# Altium integrated library National Semiconductor Switcher.IntLib: 2226 symbols (part 53 of 59)
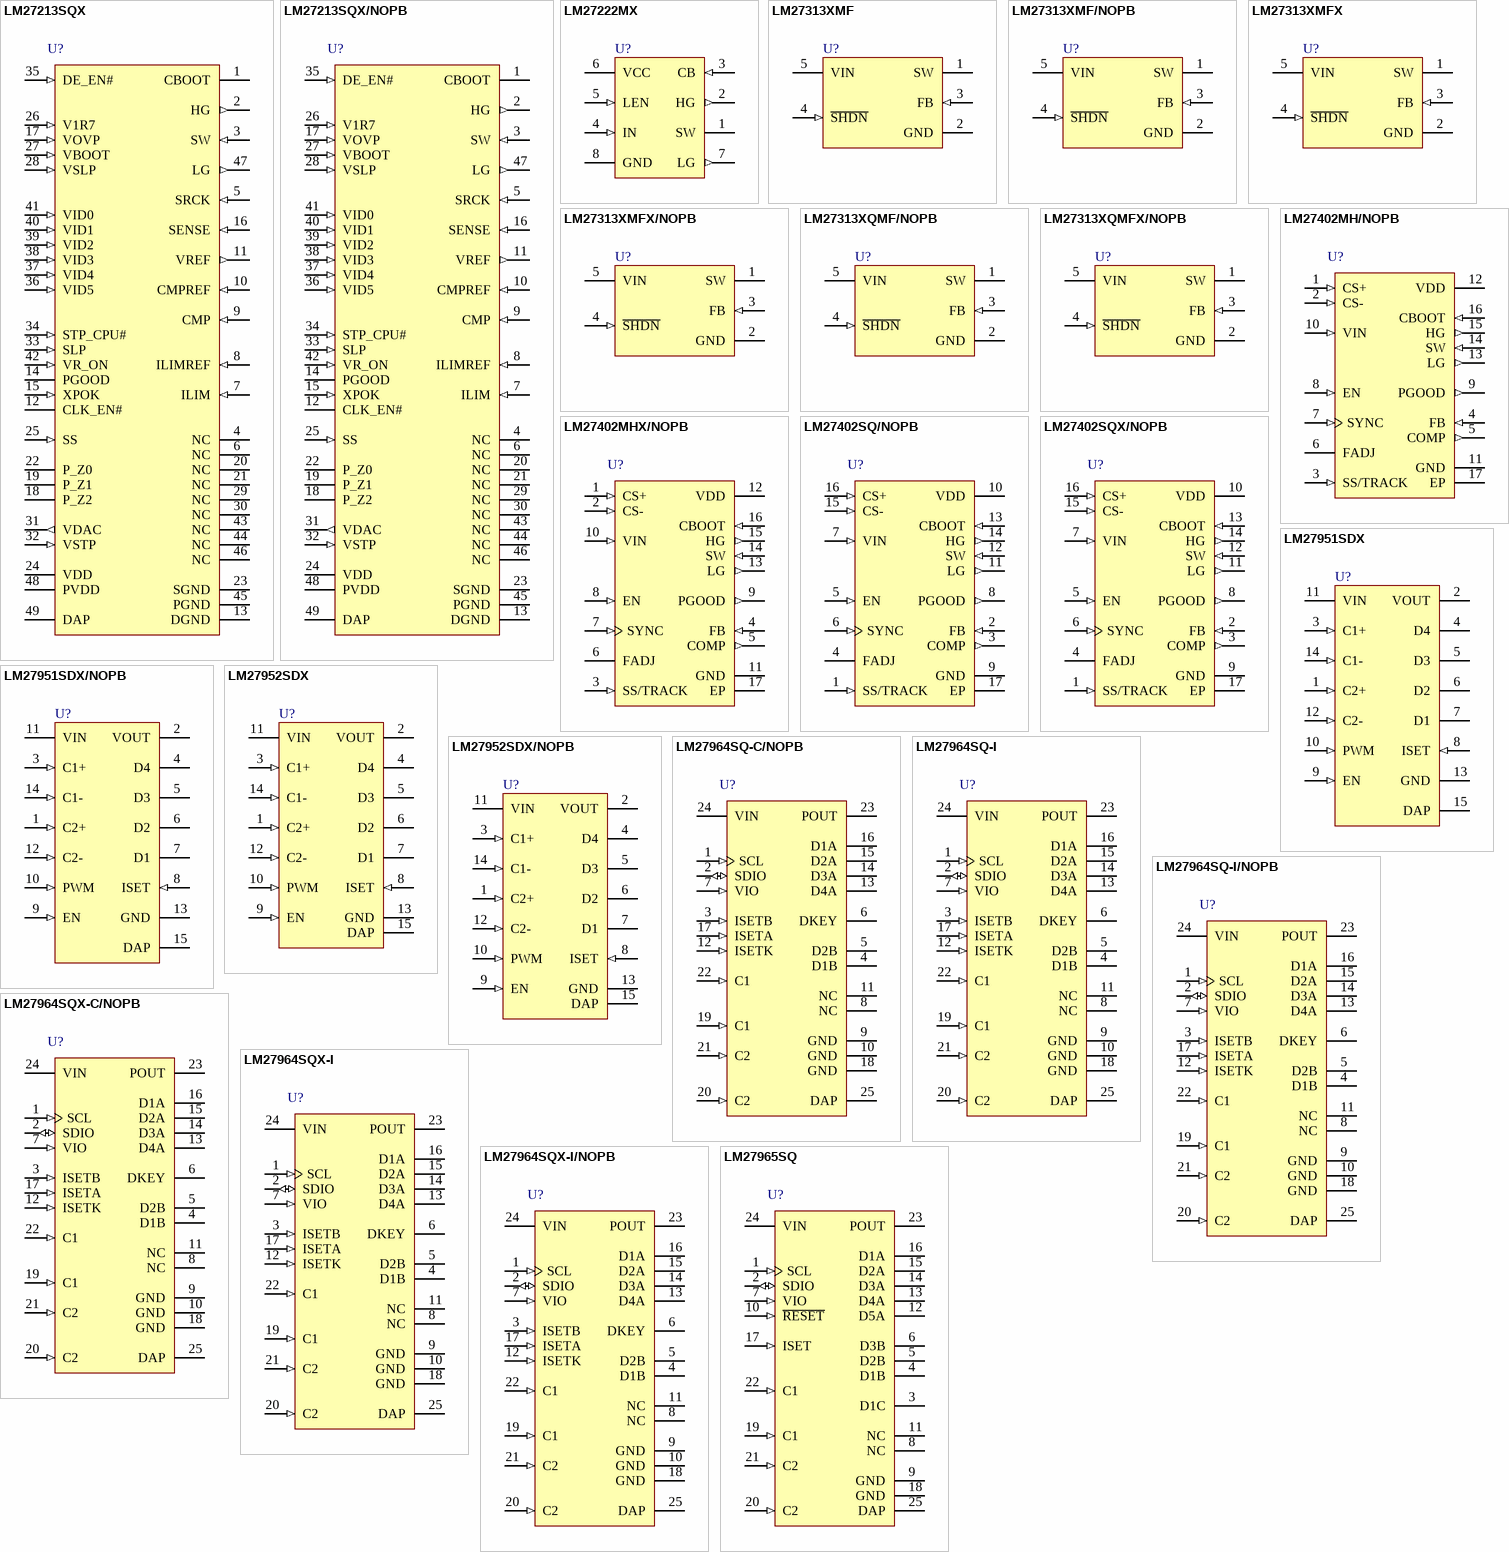
[diagram p121: symbols LM27213SQX to LM27965SQ]

## LM27951SDX/NOPB
designator U?
White LED Adaptive 1.5X/1X Switched Capacitor Current Driver, 14-pin LLP, Pb-Free; PartNumber: LM27951SDX/NOPB; Manufacturer: National Semiconductor; PackageTopMarking: ZXYTTE#*D006B; PowerWise: Y; CompType: Switcher; DatasheetVersion: Nov-2005; PackageVersion: revA, Jun-2003; PackageReference: SDA14A; PackageDescription: LLP, Plastic, Dual, 4 x 3 x 0.8mm Body, 14 Lead, 0.5mm Pitch, No Pullback; RoHS: Y; PinCount: 14; High-Reliability: Y; ComponentLink1Description: Manufacturer URL; ComponentLink1URL: http://www.national.com/; ComponentLink2Description: LM27951 Datasheet; ComponentLink2URL: http://www.national.com/ds/LM/LM27951.pdf; ComponentLink3Description: LM27951 Web Page; ComponentLink3URL: http://www.national.com/pf/LM/LM27951.html; ComponentLink4Description: SDA14A Package Page; ComponentLink4URL: http://www.national.com/packaging/folders/sda14a.html
footprint SDA14A (SON, 14-Leads, Body 4x3mm, Pitch 0.5mm, NSC Recommended)
pins: 1 C2+ (in), 2 VOUT (power), 3 C1+ (in), 4 D4 (oc), 5 D3 (oc), 6 D2 (oc), 7 D1 (oc), 8 ISET (in), 9 EN (in), 10 PWM (in), 11 VIN (power), 12 C2- (in), 13 GND (power), 14 C1- (in), 15 DAP (power)

## LM27952SDX
designator U?
White LED Adaptive 1.5X/1X Switched Capacitor Current Driver, 14-pin LLP; PartNumber: LM27952SDX; Manufacturer: National Semiconductor; PackageTopMarking: ZXYTTE#*D005B; PowerWise: Y; CompType: Switcher; DatasheetVersion: Aug-2005; PackageVersion: revA, Jun-2003; PackageReference: SDA14A; PackageDescription: LLP, Plastic, Dual, 4 x 3 x 0.8mm Body, 14 Lead, 0.5mm Pitch, No Pullback; RoHS: N; PinCount: 14; High-Reliability: Y; ComponentLink1Description: Manufacturer URL; ComponentLink1URL: http://www.national.com/; ComponentLink2Description: LM27952 Datasheet; ComponentLink2URL: http://www.national.com/ds/LM/LM27952.pdf; ComponentLink3Description: LM27952 Web Page; ComponentLink3URL: http://www.national.com/pf/LM/LM27952.html; ComponentLink4Description: SDA14A Package Page; ComponentLink4URL: http://www.national.com/packaging/folders/sda14a.html
footprint SDA14A (SON, 14-Leads, Body 4x3mm, Pitch 0.5mm, NSC Recommended)
pins: 1 C2+ (in), 2 VOUT (power), 3 C1+ (in), 4 D4 (oc), 5 D3 (oc), 6 D2 (oc), 7 D1 (oc), 8 ISET (in), 9 EN (in), 10 PWM (in), 11 VIN (power), 12 C2- (in), 13 GND (power), 14 C1- (in), 15 DAP (power)

## LM27952SDX/NOPB
designator U?
White LED Adaptive 1.5X/1X Switched Capacitor Current Driver, 14-pin LLP, Pb-Free; PartNumber: LM27952SDX/NOPB; Manufacturer: National Semiconductor; PackageTopMarking: ZXYTTE#*D005B; PowerWise: Y; CompType: Switcher; DatasheetVersion: Aug-2005; PackageVersion: revA, Jun-2003; PackageReference: SDA14A; PackageDescription: LLP, Plastic, Dual, 4 x 3 x 0.8mm Body, 14 Lead, 0.5mm Pitch, No Pullback; RoHS: Y; PinCount: 14; High-Reliability: Y; ComponentLink1Description: Manufacturer URL; ComponentLink1URL: http://www.national.com/; ComponentLink2Description: LM27952 Datasheet; ComponentLink2URL: http://www.national.com/ds/LM/LM27952.pdf; ComponentLink3Description: LM27952 Web Page; ComponentLink3URL: http://www.national.com/pf/LM/LM27952.html; ComponentLink4Description: SDA14A Package Page; ComponentLink4URL: http://www.national.com/packaging/folders/sda14a.html
footprint SDA14A (SON, 14-Leads, Body 4x3mm, Pitch 0.5mm, NSC Recommended)
pins: 1 C2+ (in), 2 VOUT (power), 3 C1+ (in), 4 D4 (oc), 5 D3 (oc), 6 D2 (oc), 7 D1 (oc), 8 ISET (in), 9 EN (in), 10 PWM (in), 11 VIN (power), 12 C2- (in), 13 GND (power), 14 C1- (in), 15 DAP (power)

## LM27964SQ-C/NOPB
designator U?
White LED Driver System with I2C Compatible Brightness Control, 24-pin LLP, Pb-Free; PartNumber: LM27964SQ-C/NOPB; Manufacturer: National Semiconductor; PackageTopMarking: NS*UZXYTT*27964-C; PowerWise: N; CompType: Switcher; High-Reliability: Y; DatasheetVersion: Aug-2007; PackageVersion: revB, Aug-2003; PackageReference: SQA24A; PackageDescription: LLP, Plastic, Quad, 4 x 4 x 0.8mm Body, 24 Lead, 0.5mm Pitch, No Pullback; RoHS: Y; PinCount: 24; Code_JEDEC: MO-220-WGGD-6; ComponentLink1Description: Manufacturer URL; ComponentLink1URL: http://www.national.com/; ComponentLink2Description: LM27964 Datasheet; ComponentLink2URL: http://www.national.com/ds/LM/LM27964.pdf; ComponentLink3Description: LM27964 Web Page; ComponentLink3URL: http://www.national.com/pf/LM/LM27964.html; ComponentLink4Description: SQA24A Package Page; ComponentLink4URL: http://www.national.com/packaging/folders/sqa24a.html
footprint SQA24A (QFN, 24-Leads, Body 4x4mm, Pitch 0.5mm, Thermal Pad 2.7x2.7mm, NSC Recommended)
pins: 1 SCL (in), 2 SDIO (io), 3 ISETB (in), 4 D1B (oc), 5 D2B (oc), 6 DKEY (oc), 7 VIO (in), 8 NC, 9 GND (power), 10 GND (power), 11 NC, 12 ISETK (in), 13 D4A (oc), 14 D3A (oc), 15 D2A (oc), 16 D1A (oc), 17 ISETA (in), 18 GND (power), 19 C1 (in), 20 C2 (in), 21 C2 (in), 22 C1 (in), 23 POUT (power), 24 VIN (power), 25 DAP (power)

## LM27964SQ-I
designator U?
White LED Driver System with I2C Compatible Brightness Control, 24-pin LLP; PartNumber: LM27964SQ-I; Manufacturer: National Semiconductor; PackageTopMarking: NS*UZXYTT*L27964S; PowerWise: N; CompType: Switcher; High-Reliability: Y; DatasheetVersion: Aug-2007; PackageVersion: revB, Aug-2003; PackageReference: SQA24A; PackageDescription: LLP, Plastic, Quad, 4 x 4 x 0.8mm Body, 24 Lead, 0.5mm Pitch, No Pullback; RoHS: N; PinCount: 24; Code_JEDEC: MO-220-WGGD-6; ComponentLink1Description: Manufacturer URL; ComponentLink1URL: http://www.national.com/; ComponentLink2Description: LM27964 Datasheet; ComponentLink2URL: http://www.national.com/ds/LM/LM27964.pdf; ComponentLink3Description: LM27964 Web Page; ComponentLink3URL: http://www.national.com/pf/LM/LM27964.html; ComponentLink4Description: SQA24A Package Page; ComponentLink4URL: http://www.national.com/packaging/folders/sqa24a.html
footprint SQA24A (QFN, 24-Leads, Body 4x4mm, Pitch 0.5mm, Thermal Pad 2.7x2.7mm, NSC Recommended)
pins: 1 SCL (in), 2 SDIO (io), 3 ISETB (in), 4 D1B (oc), 5 D2B (oc), 6 DKEY (oc), 7 VIO (in), 8 NC, 9 GND (power), 10 GND (power), 11 NC, 12 ISETK (in), 13 D4A (oc), 14 D3A (oc), 15 D2A (oc), 16 D1A (oc), 17 ISETA (in), 18 GND (power), 19 C1 (in), 20 C2 (in), 21 C2 (in), 22 C1 (in), 23 POUT (power), 24 VIN (power), 25 DAP (power)

## LM27964SQ-I/NOPB
designator U?
White LED Driver System with I2C Compatible Brightness Control, 24-pin LLP, Pb-Free; PartNumber: LM27964SQ-I/NOPB; Manufacturer: National Semiconductor; PackageTopMarking: NS*UZXYTT*L27964S; PowerWise: N; CompType: Switcher; High-Reliability: Y; DatasheetVersion: Aug-2007; PackageVersion: revB, Aug-2003; PackageReference: SQA24A; PackageDescription: LLP, Plastic, Quad, 4 x 4 x 0.8mm Body, 24 Lead, 0.5mm Pitch, No Pullback; RoHS: Y; PinCount: 24; Code_JEDEC: MO-220-WGGD-6; ComponentLink1Description: Manufacturer URL; ComponentLink1URL: http://www.national.com/; ComponentLink2Description: LM27964 Datasheet; ComponentLink2URL: http://www.national.com/ds/LM/LM27964.pdf; ComponentLink3Description: LM27964 Web Page; ComponentLink3URL: http://www.national.com/pf/LM/LM27964.html; ComponentLink4Description: SQA24A Package Page; ComponentLink4URL: http://www.national.com/packaging/folders/sqa24a.html
footprint SQA24A (QFN, 24-Leads, Body 4x4mm, Pitch 0.5mm, Thermal Pad 2.7x2.7mm, NSC Recommended)
pins: 1 SCL (in), 2 SDIO (io), 3 ISETB (in), 4 D1B (oc), 5 D2B (oc), 6 DKEY (oc), 7 VIO (in), 8 NC, 9 GND (power), 10 GND (power), 11 NC, 12 ISETK (in), 13 D4A (oc), 14 D3A (oc), 15 D2A (oc), 16 D1A (oc), 17 ISETA (in), 18 GND (power), 19 C1 (in), 20 C2 (in), 21 C2 (in), 22 C1 (in), 23 POUT (power), 24 VIN (power), 25 DAP (power)

## LM27964SQX-C/NOPB
designator U?
White LED Driver System with I2C Compatible Brightness Control, 24-pin LLP, Pb-Free; PartNumber: LM27964SQX-C/NOPB; Manufacturer: National Semiconductor; PackageTopMarking: NS*UZXYTT*27964-C; PowerWise: N; CompType: Switcher; High-Reliability: Y; DatasheetVersion: Aug-2007; PackageVersion: revB, Aug-2003; PackageReference: SQA24A; PackageDescription: LLP, Plastic, Quad, 4 x 4 x 0.8mm Body, 24 Lead, 0.5mm Pitch, No Pullback; RoHS: Y; PinCount: 24; Code_JEDEC: MO-220-WGGD-6; ComponentLink1Description: Manufacturer URL; ComponentLink1URL: http://www.national.com/; ComponentLink2Description: LM27964 Datasheet; ComponentLink2URL: http://www.national.com/ds/LM/LM27964.pdf; ComponentLink3Description: LM27964 Web Page; ComponentLink3URL: http://www.national.com/pf/LM/LM27964.html; ComponentLink4Description: SQA24A Package Page; ComponentLink4URL: http://www.national.com/packaging/folders/sqa24a.html
footprint SQA24A (QFN, 24-Leads, Body 4x4mm, Pitch 0.5mm, Thermal Pad 2.7x2.7mm, NSC Recommended)
pins: 1 SCL (in), 2 SDIO (io), 3 ISETB (in), 4 D1B (oc), 5 D2B (oc), 6 DKEY (oc), 7 VIO (in), 8 NC, 9 GND (power), 10 GND (power), 11 NC, 12 ISETK (in), 13 D4A (oc), 14 D3A (oc), 15 D2A (oc), 16 D1A (oc), 17 ISETA (in), 18 GND (power), 19 C1 (in), 20 C2 (in), 21 C2 (in), 22 C1 (in), 23 POUT (power), 24 VIN (power), 25 DAP (power)

## LM27964SQX-I
designator U?
White LED Driver System with I2C Compatible Brightness Control, 24-pin LLP; PartNumber: LM27964SQX-I; Manufacturer: National Semiconductor; PackageTopMarking: NS*UZXYTT*L27964S; PowerWise: N; CompType: Switcher; High-Reliability: Y; DatasheetVersion: Aug-2007; PackageVersion: revB, Aug-2003; PackageReference: SQA24A; PackageDescription: LLP, Plastic, Quad, 4 x 4 x 0.8mm Body, 24 Lead, 0.5mm Pitch, No Pullback; RoHS: N; PinCount: 24; Code_JEDEC: MO-220-WGGD-6; ComponentLink1Description: Manufacturer URL; ComponentLink1URL: http://www.national.com/; ComponentLink2Description: LM27964 Datasheet; ComponentLink2URL: http://www.national.com/ds/LM/LM27964.pdf; ComponentLink3Description: LM27964 Web Page; ComponentLink3URL: http://www.national.com/pf/LM/LM27964.html; ComponentLink4Description: SQA24A Package Page; ComponentLink4URL: http://www.national.com/packaging/folders/sqa24a.html
footprint SQA24A (QFN, 24-Leads, Body 4x4mm, Pitch 0.5mm, Thermal Pad 2.7x2.7mm, NSC Recommended)
pins: 1 SCL (in), 2 SDIO (io), 3 ISETB (in), 4 D1B (oc), 5 D2B (oc), 6 DKEY (oc), 7 VIO (in), 8 NC, 9 GND (power), 10 GND (power), 11 NC, 12 ISETK (in), 13 D4A (oc), 14 D3A (oc), 15 D2A (oc), 16 D1A (oc), 17 ISETA (in), 18 GND (power), 19 C1 (in), 20 C2 (in), 21 C2 (in), 22 C1 (in), 23 POUT (power), 24 VIN (power), 25 DAP (power)

## LM27964SQX-I/NOPB
designator U?
White LED Driver System with I2C Compatible Brightness Control, 24-pin LLP, Pb-Free; PartNumber: LM27964SQX-I/NOPB; Manufacturer: National Semiconductor; PackageTopMarking: NS*UZXYTT*L27964S; PowerWise: N; CompType: Switcher; High-Reliability: Y; DatasheetVersion: Aug-2007; PackageVersion: revB, Aug-2003; PackageReference: SQA24A; PackageDescription: LLP, Plastic, Quad, 4 x 4 x 0.8mm Body, 24 Lead, 0.5mm Pitch, No Pullback; RoHS: Y; PinCount: 24; Code_JEDEC: MO-220-WGGD-6; ComponentLink1Description: Manufacturer URL; ComponentLink1URL: http://www.national.com/; ComponentLink2Description: LM27964 Datasheet; ComponentLink2URL: http://www.national.com/ds/LM/LM27964.pdf; ComponentLink3Description: LM27964 Web Page; ComponentLink3URL: http://www.national.com/pf/LM/LM27964.html; ComponentLink4Description: SQA24A Package Page; ComponentLink4URL: http://www.national.com/packaging/folders/sqa24a.html
footprint SQA24A (QFN, 24-Leads, Body 4x4mm, Pitch 0.5mm, Thermal Pad 2.7x2.7mm, NSC Recommended)
pins: 1 SCL (in), 2 SDIO (io), 3 ISETB (in), 4 D1B (oc), 5 D2B (oc), 6 DKEY (oc), 7 VIO (in), 8 NC, 9 GND (power), 10 GND (power), 11 NC, 12 ISETK (in), 13 D4A (oc), 14 D3A (oc), 15 D2A (oc), 16 D1A (oc), 17 ISETA (in), 18 GND (power), 19 C1 (in), 20 C2 (in), 21 C2 (in), 22 C1 (in), 23 POUT (power), 24 VIN (power), 25 DAP (power)

## LM27965SQ
designator U?
Dual Display White LED Driver with I2C Compatible Brightness Control, 24-pin LLP; PartNumber: LM27965SQ; Manufacturer: National Semiconductor; PackageTopMarking: NS*UZXYTT*L27965S; PowerWise: Y; CompType: Switcher; DatasheetVersion: Oct-2007; PackageVersion: revB, Aug-2003; PackageReference: SQA24A; PackageDescription: LLP, Plastic, Quad, 4 x 4 x 0.8mm Body, 24 Lead, 0.5mm Pitch, No Pullback; RoHS: N; PinCount: 24; High-Reliability: Y; Code_JEDEC: MO-220-WGGD-6; ComponentLink1Description: Manufacturer URL; ComponentLink1URL: http://www.national.com/; ComponentLink2Description: LM27965 Datasheet; ComponentLink2URL: http://www.national.com/ds/LM/LM27965.pdf; ComponentLink3Description: LM27965 Web Page; ComponentLink3URL: http://www.national.com/pf/LM/LM27965.html; ComponentLink4Description: SQA24A Package Page; ComponentLink4URL: http://www.national.com/packaging/folders/sqa24a.html
footprint SQA24A (QFN, 24-Leads, Body 4x4mm, Pitch 0.5mm, Thermal Pad 2.7x2.7mm, NSC Recommended)
pins: 1 SCL (in), 2 SDIO (io), 3 D1C (oc), 4 D1B (oc), 5 D2B (oc), 6 D3B (oc), 7 VIO (in), 8 NC, 9 GND (power), 10 ~{RESET} (in), 11 NC, 12 D5A (oc), 13 D4A (oc), 14 D3A (oc), 15 D2A (oc), 16 D1A (oc), 17 ISET (in), 18 GND (power), 19 C1 (in), 20 C2 (in), 21 C2 (in), 22 C1 (in), 23 POUT (power), 24 VIN (power), 25 DAP (power)

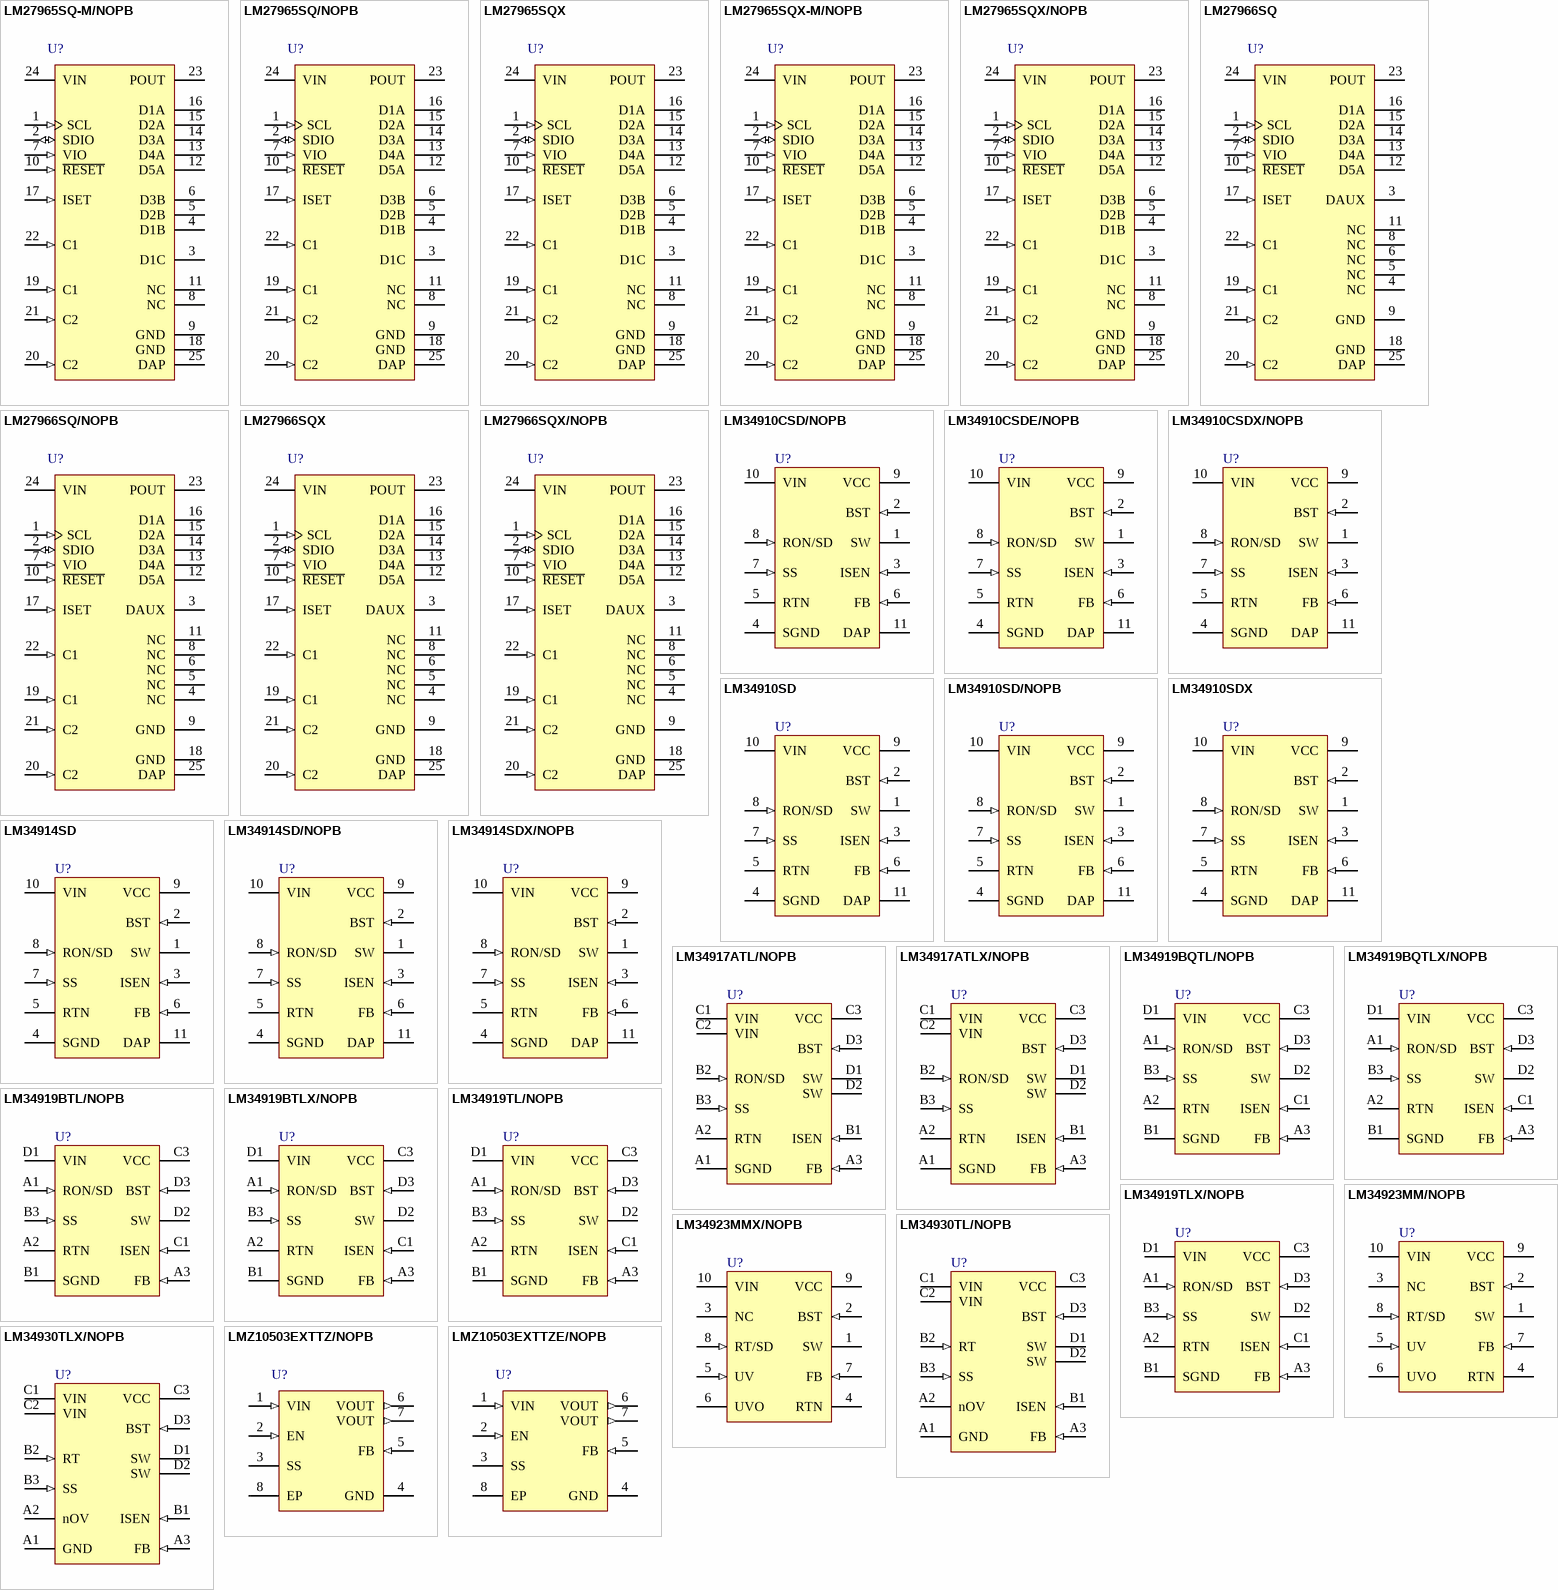
[diagram p61: symbols LM27965SQ-M/NOPB to LMZ10503EXTTZE/NOPB]

## LM27965SQ-M/NOPB
designator U?
Dual Display White LED Driver with I2C Compatible Brightness Control, 24-pin LLP, Pb-Free; PartNumber: LM27965SQ-M/NOPB; Manufacturer: National Semiconductor; PackageTopMarking: NS*UZXYTT*27965M; PowerWise: N; CompType: Switcher; High-Reliability: Y; DatasheetVersion: Oct-2007; PackageVersion: revB, Aug-2003; PackageReference: SQA24A; PackageDescription: LLP, Plastic, Quad, 4 x 4 x 0.8mm Body, 24 Lead, 0.5mm Pitch, No Pullback; RoHS: Y; PinCount: 24; Code_JEDEC: MO-220-WGGD-6; ComponentLink1Description: Manufacturer URL; ComponentLink1URL: http://www.national.com/; ComponentLink2Description: LM27965 Datasheet; ComponentLink2URL: http://www.national.com/ds/LM/LM27965.pdf; ComponentLink3Description: LM27965 Web Page; ComponentLink3URL: http://www.national.com/pf/LM/LM27965.html; ComponentLink4Description: SQA24A Package Page; ComponentLink4URL: http://www.national.com/packaging/folders/sqa24a.html
footprint SQA24A (QFN, 24-Leads, Body 4x4mm, Pitch 0.5mm, Thermal Pad 2.7x2.7mm, NSC Recommended)
pins: 1 SCL (in), 2 SDIO (io), 3 D1C (oc), 4 D1B (oc), 5 D2B (oc), 6 D3B (oc), 7 VIO (in), 8 NC, 9 GND (power), 10 ~{RESET} (in), 11 NC, 12 D5A (oc), 13 D4A (oc), 14 D3A (oc), 15 D2A (oc), 16 D1A (oc), 17 ISET (in), 18 GND (power), 19 C1 (in), 20 C2 (in), 21 C2 (in), 22 C1 (in), 23 POUT (power), 24 VIN (power), 25 DAP (power)

## LM27965SQ/NOPB
designator U?
Dual Display White LED Driver with I2C Compatible Brightness Control, 24-pin LLP, Pb-Free; PartNumber: LM27965SQ/NOPB; Manufacturer: National Semiconductor; PackageTopMarking: NS*UZXYTT*L27965S; PowerWise: Y; CompType: Switcher; DatasheetVersion: Oct-2007; PackageVersion: revB, Aug-2003; PackageReference: SQA24A; PackageDescription: LLP, Plastic, Quad, 4 x 4 x 0.8mm Body, 24 Lead, 0.5mm Pitch, No Pullback; RoHS: Y; PinCount: 24; High-Reliability: Y; Code_JEDEC: MO-220-WGGD-6; ComponentLink1Description: Manufacturer URL; ComponentLink1URL: http://www.national.com/; ComponentLink2Description: LM27965 Datasheet; ComponentLink2URL: http://www.national.com/ds/LM/LM27965.pdf; ComponentLink3Description: LM27965 Web Page; ComponentLink3URL: http://www.national.com/pf/LM/LM27965.html; ComponentLink4Description: SQA24A Package Page; ComponentLink4URL: http://www.national.com/packaging/folders/sqa24a.html
footprint SQA24A (QFN, 24-Leads, Body 4x4mm, Pitch 0.5mm, Thermal Pad 2.7x2.7mm, NSC Recommended)
pins: 1 SCL (in), 2 SDIO (io), 3 D1C (oc), 4 D1B (oc), 5 D2B (oc), 6 D3B (oc), 7 VIO (in), 8 NC, 9 GND (power), 10 ~{RESET} (in), 11 NC, 12 D5A (oc), 13 D4A (oc), 14 D3A (oc), 15 D2A (oc), 16 D1A (oc), 17 ISET (in), 18 GND (power), 19 C1 (in), 20 C2 (in), 21 C2 (in), 22 C1 (in), 23 POUT (power), 24 VIN (power), 25 DAP (power)

## LM27965SQX
designator U?
Dual Display White LED Driver with I2C Compatible Brightness Control, 24-pin LLP; PartNumber: LM27965SQX; Manufacturer: National Semiconductor; PackageTopMarking: NS*UZXYTT*L27965S; PowerWise: Y; CompType: Switcher; DatasheetVersion: Oct-2007; PackageVersion: revB, Aug-2003; PackageReference: SQA24A; PackageDescription: LLP, Plastic, Quad, 4 x 4 x 0.8mm Body, 24 Lead, 0.5mm Pitch, No Pullback; RoHS: N; PinCount: 24; High-Reliability: Y; Code_JEDEC: MO-220-WGGD-6; ComponentLink1Description: Manufacturer URL; ComponentLink1URL: http://www.national.com/; ComponentLink2Description: LM27965 Datasheet; ComponentLink2URL: http://www.national.com/ds/LM/LM27965.pdf; ComponentLink3Description: LM27965 Web Page; ComponentLink3URL: http://www.national.com/pf/LM/LM27965.html; ComponentLink4Description: SQA24A Package Page; ComponentLink4URL: http://www.national.com/packaging/folders/sqa24a.html
footprint SQA24A (QFN, 24-Leads, Body 4x4mm, Pitch 0.5mm, Thermal Pad 2.7x2.7mm, NSC Recommended)
pins: 1 SCL (in), 2 SDIO (io), 3 D1C (oc), 4 D1B (oc), 5 D2B (oc), 6 D3B (oc), 7 VIO (in), 8 NC, 9 GND (power), 10 ~{RESET} (in), 11 NC, 12 D5A (oc), 13 D4A (oc), 14 D3A (oc), 15 D2A (oc), 16 D1A (oc), 17 ISET (in), 18 GND (power), 19 C1 (in), 20 C2 (in), 21 C2 (in), 22 C1 (in), 23 POUT (power), 24 VIN (power), 25 DAP (power)

## LM27965SQX-M/NOPB
designator U?
Dual Display White LED Driver with I2C Compatible Brightness Control, 24-pin LLP, Pb-Free; PartNumber: LM27965SQX-M/NOPB; Manufacturer: National Semiconductor; PackageTopMarking: NS*UZXYTT*27965M; PowerWise: N; CompType: Switcher; High-Reliability: Y; DatasheetVersion: Oct-2007; PackageVersion: revB, Aug-2003; PackageReference: SQA24A; PackageDescription: LLP, Plastic, Quad, 4 x 4 x 0.8mm Body, 24 Lead, 0.5mm Pitch, No Pullback; RoHS: Y; PinCount: 24; Code_JEDEC: MO-220-WGGD-6; ComponentLink1Description: Manufacturer URL; ComponentLink1URL: http://www.national.com/; ComponentLink2Description: LM27965 Datasheet; ComponentLink2URL: http://www.national.com/ds/LM/LM27965.pdf; ComponentLink3Description: LM27965 Web Page; ComponentLink3URL: http://www.national.com/pf/LM/LM27965.html; ComponentLink4Description: SQA24A Package Page; ComponentLink4URL: http://www.national.com/packaging/folders/sqa24a.html
footprint SQA24A (QFN, 24-Leads, Body 4x4mm, Pitch 0.5mm, Thermal Pad 2.7x2.7mm, NSC Recommended)
pins: 1 SCL (in), 2 SDIO (io), 3 D1C (oc), 4 D1B (oc), 5 D2B (oc), 6 D3B (oc), 7 VIO (in), 8 NC, 9 GND (power), 10 ~{RESET} (in), 11 NC, 12 D5A (oc), 13 D4A (oc), 14 D3A (oc), 15 D2A (oc), 16 D1A (oc), 17 ISET (in), 18 GND (power), 19 C1 (in), 20 C2 (in), 21 C2 (in), 22 C1 (in), 23 POUT (power), 24 VIN (power), 25 DAP (power)

## LM27965SQX/NOPB
designator U?
Dual Display White LED Driver with I2C Compatible Brightness Control, 24-pin LLP, Pb-Free; PartNumber: LM27965SQX/NOPB; Manufacturer: National Semiconductor; PackageTopMarking: NS*UZXYTT*L27965S; PowerWise: Y; CompType: Switcher; DatasheetVersion: Oct-2007; PackageVersion: revB, Aug-2003; PackageReference: SQA24A; PackageDescription: LLP, Plastic, Quad, 4 x 4 x 0.8mm Body, 24 Lead, 0.5mm Pitch, No Pullback; RoHS: Y; PinCount: 24; High-Reliability: Y; Code_JEDEC: MO-220-WGGD-6; ComponentLink1Description: Manufacturer URL; ComponentLink1URL: http://www.national.com/; ComponentLink2Description: LM27965 Datasheet; ComponentLink2URL: http://www.national.com/ds/LM/LM27965.pdf; ComponentLink3Description: LM27965 Web Page; ComponentLink3URL: http://www.national.com/pf/LM/LM27965.html; ComponentLink4Description: SQA24A Package Page; ComponentLink4URL: http://www.national.com/packaging/folders/sqa24a.html
footprint SQA24A (QFN, 24-Leads, Body 4x4mm, Pitch 0.5mm, Thermal Pad 2.7x2.7mm, NSC Recommended)
pins: 1 SCL (in), 2 SDIO (io), 3 D1C (oc), 4 D1B (oc), 5 D2B (oc), 6 D3B (oc), 7 VIO (in), 8 NC, 9 GND (power), 10 ~{RESET} (in), 11 NC, 12 D5A (oc), 13 D4A (oc), 14 D3A (oc), 15 D2A (oc), 16 D1A (oc), 17 ISET (in), 18 GND (power), 19 C1 (in), 20 C2 (in), 21 C2 (in), 22 C1 (in), 23 POUT (power), 24 VIN (power), 25 DAP (power)

## LM27966SQ
designator U?
White LED Driver with I2C Compatible Interface, 24-pin LLP; PartNumber: LM27966SQ; Manufacturer: National Semiconductor; PackageTopMarking: NS*UZXYTT*L27966S; PowerWise: Y; CompType: Switcher; DatasheetVersion: Aug-2006; PackageVersion: revB, Aug-2003; PackageReference: SQA24A; PackageDescription: LLP, Plastic, Quad, 4 x 4 x 0.8mm Body, 24 Lead, 0.5mm Pitch, No Pullback; RoHS: N; PinCount: 24; High-Reliability: Y; Code_JEDEC: MO-220-WGGD-6; ComponentLink1Description: Manufacturer URL; ComponentLink1URL: http://www.national.com/; ComponentLink2Description: LM27966 Datasheet; ComponentLink2URL: http://www.national.com/ds/LM/LM27966.pdf; ComponentLink3Description: LM27966 Web Page; ComponentLink3URL: http://www.national.com/pf/LM/LM27966.html; ComponentLink4Description: SQA24A Package Page; ComponentLink4URL: http://www.national.com/packaging/folders/sqa24a.html
footprint SQA24A (QFN, 24-Leads, Body 4x4mm, Pitch 0.5mm, Thermal Pad 2.7x2.7mm, NSC Recommended)
pins: 1 SCL (in), 2 SDIO (io), 3 DAUX (oc), 4 NC, 5 NC, 6 NC, 7 VIO (in), 8 NC, 9 GND (power), 10 ~{RESET} (in), 11 NC, 12 D5A (oc), 13 D4A (oc), 14 D3A (oc), 15 D2A (oc), 16 D1A (oc), 17 ISET (in), 18 GND (power), 19 C1 (in), 20 C2 (in), 21 C2 (in), 22 C1 (in), 23 POUT (power), 24 VIN (power), 25 DAP (power)

## LM27966SQ/NOPB
designator U?
White LED Driver with I2C Compatible Interface, 24-pin LLP, Pb-Free; PartNumber: LM27966SQ/NOPB; Manufacturer: National Semiconductor; PackageTopMarking: NS*UZXYTT*L27966S; PowerWise: Y; CompType: Switcher; DatasheetVersion: Aug-2006; PackageVersion: revB, Aug-2003; PackageReference: SQA24A; PackageDescription: LLP, Plastic, Quad, 4 x 4 x 0.8mm Body, 24 Lead, 0.5mm Pitch, No Pullback; RoHS: Y; PinCount: 24; High-Reliability: Y; Code_JEDEC: MO-220-WGGD-6; ComponentLink1Description: Manufacturer URL; ComponentLink1URL: http://www.national.com/; ComponentLink2Description: LM27966 Datasheet; ComponentLink2URL: http://www.national.com/ds/LM/LM27966.pdf; ComponentLink3Description: LM27966 Web Page; ComponentLink3URL: http://www.national.com/pf/LM/LM27966.html; ComponentLink4Description: SQA24A Package Page; ComponentLink4URL: http://www.national.com/packaging/folders/sqa24a.html
footprint SQA24A (QFN, 24-Leads, Body 4x4mm, Pitch 0.5mm, Thermal Pad 2.7x2.7mm, NSC Recommended)
pins: 1 SCL (in), 2 SDIO (io), 3 DAUX (oc), 4 NC, 5 NC, 6 NC, 7 VIO (in), 8 NC, 9 GND (power), 10 ~{RESET} (in), 11 NC, 12 D5A (oc), 13 D4A (oc), 14 D3A (oc), 15 D2A (oc), 16 D1A (oc), 17 ISET (in), 18 GND (power), 19 C1 (in), 20 C2 (in), 21 C2 (in), 22 C1 (in), 23 POUT (power), 24 VIN (power), 25 DAP (power)

## LM27966SQX
designator U?
White LED Driver with I2C Compatible Interface, 24-pin LLP; PartNumber: LM27966SQX; Manufacturer: National Semiconductor; PackageTopMarking: NS*UZXYTT*L27966S; PowerWise: Y; CompType: Switcher; DatasheetVersion: Aug-2006; PackageVersion: revB, Aug-2003; PackageReference: SQA24A; PackageDescription: LLP, Plastic, Quad, 4 x 4 x 0.8mm Body, 24 Lead, 0.5mm Pitch, No Pullback; RoHS: N; PinCount: 24; High-Reliability: Y; Code_JEDEC: MO-220-WGGD-6; ComponentLink1Description: Manufacturer URL; ComponentLink1URL: http://www.national.com/; ComponentLink2Description: LM27966 Datasheet; ComponentLink2URL: http://www.national.com/ds/LM/LM27966.pdf; ComponentLink3Description: LM27966 Web Page; ComponentLink3URL: http://www.national.com/pf/LM/LM27966.html; ComponentLink4Description: SQA24A Package Page; ComponentLink4URL: http://www.national.com/packaging/folders/sqa24a.html
footprint SQA24A (QFN, 24-Leads, Body 4x4mm, Pitch 0.5mm, Thermal Pad 2.7x2.7mm, NSC Recommended)
pins: 1 SCL (in), 2 SDIO (io), 3 DAUX (oc), 4 NC, 5 NC, 6 NC, 7 VIO (in), 8 NC, 9 GND (power), 10 ~{RESET} (in), 11 NC, 12 D5A (oc), 13 D4A (oc), 14 D3A (oc), 15 D2A (oc), 16 D1A (oc), 17 ISET (in), 18 GND (power), 19 C1 (in), 20 C2 (in), 21 C2 (in), 22 C1 (in), 23 POUT (power), 24 VIN (power), 25 DAP (power)

## LM27966SQX/NOPB
designator U?
White LED Driver with I2C Compatible Interface, 24-pin LLP, Pb-Free; PartNumber: LM27966SQX/NOPB; Manufacturer: National Semiconductor; PackageTopMarking: NS*UZXYTT*L27966S; PowerWise: Y; CompType: Switcher; DatasheetVersion: Aug-2006; PackageVersion: revB, Aug-2003; PackageReference: SQA24A; PackageDescription: LLP, Plastic, Quad, 4 x 4 x 0.8mm Body, 24 Lead, 0.5mm Pitch, No Pullback; RoHS: Y; PinCount: 24; High-Reliability: Y; Code_JEDEC: MO-220-WGGD-6; ComponentLink1Description: Manufacturer URL; ComponentLink1URL: http://www.national.com/; ComponentLink2Description: LM27966 Datasheet; ComponentLink2URL: http://www.national.com/ds/LM/LM27966.pdf; ComponentLink3Description: LM27966 Web Page; ComponentLink3URL: http://www.national.com/pf/LM/LM27966.html; ComponentLink4Description: SQA24A Package Page; ComponentLink4URL: http://www.national.com/packaging/folders/sqa24a.html
footprint SQA24A (QFN, 24-Leads, Body 4x4mm, Pitch 0.5mm, Thermal Pad 2.7x2.7mm, NSC Recommended)
pins: 1 SCL (in), 2 SDIO (io), 3 DAUX (oc), 4 NC, 5 NC, 6 NC, 7 VIO (in), 8 NC, 9 GND (power), 10 ~{RESET} (in), 11 NC, 12 D5A (oc), 13 D4A (oc), 14 D3A (oc), 15 D2A (oc), 16 D1A (oc), 17 ISET (in), 18 GND (power), 19 C1 (in), 20 C2 (in), 21 C2 (in), 22 C1 (in), 23 POUT (power), 24 VIN (power), 25 DAP (power)

## LM34910CSD/NOPB
designator U?
High Voltage (50V, 1.25A) Step Down Switching Regulator, 10-pin LLP, Pb-Free; PartNumber: LM34910CSD/NOPB; Manufacturer: National Semiconductor; PackageTopMarking: NS*UZXYTT*L34910C; PowerWise: N; CompType: Switcher; High-Reliability: Y; DatasheetVersion: Aug-2007; PackageVersion: revA, May-2003; PackageReference: SDC10A; PackageDescription: LLP, Plastic, Dual, 4 x 4 x 0.8mm Body, 10 Lead, 0.8mm Pitch, No Pullback; RoHS: Y; PinCount: 10; ComponentLink1Description: Manufacturer URL; ComponentLink1URL: http://www.national.com/; ComponentLink2Description: LM34910C Datasheet; ComponentLink2URL: http://www.national.com/ds/LM/LM34910C.pdf; ComponentLink3Description: LM34910C Web Page; ComponentLink3URL: http://www.national.com/pf/LM/LM34910C.html; ComponentLink4Description: SDC10A Package Page; ComponentLink4URL: http://www.national.com/packaging/folders/sdc10a.html
footprint SDC10A (SON, 10-Leads, Body 4x4 mm, Pitch 0.8mm, NSC Recommended)
pins: 1 SW (power), 2 BST (in), 3 ISEN (in), 4 SGND (power), 5 RTN (power), 6 FB (in), 7 SS (in), 8 RON/SD (in), 9 VCC (power), 10 VIN (power), 11 DAP (power)

## LM34910CSDE/NOPB
designator U?
High Voltage (50V, 1.25A) Step Down Switching Regulator, 10-pin LLP, Pb-Free; PartNumber: LM34910CSDE/NOPB; Manufacturer: National Semiconductor; PackageTopMarking: NS*UZXYTT*L34910C; PowerWise: N; CompType: Switcher; High-Reliability: Y; DatasheetVersion: Aug-2007; PackageVersion: revA, May-2003; PackageReference: SDC10A; PackageDescription: LLP, Plastic, Dual, 4 x 4 x 0.8mm Body, 10 Lead, 0.8mm Pitch, No Pullback; RoHS: Y; PinCount: 10; ComponentLink1Description: Manufacturer URL; ComponentLink1URL: http://www.national.com/; ComponentLink2Description: LM34910C Datasheet; ComponentLink2URL: http://www.national.com/ds/LM/LM34910C.pdf; ComponentLink3Description: LM34910C Web Page; ComponentLink3URL: http://www.national.com/pf/LM/LM34910C.html; ComponentLink4Description: SDC10A Package Page; ComponentLink4URL: http://www.national.com/packaging/folders/sdc10a.html
footprint SDC10A (SON, 10-Leads, Body 4x4 mm, Pitch 0.8mm, NSC Recommended)
pins: 1 SW (power), 2 BST (in), 3 ISEN (in), 4 SGND (power), 5 RTN (power), 6 FB (in), 7 SS (in), 8 RON/SD (in), 9 VCC (power), 10 VIN (power), 11 DAP (power)

## LM34910CSDX/NOPB
designator U?
High Voltage (50V, 1.25A) Step Down Switching Regulator, 10-pin LLP, Pb-Free; PartNumber: LM34910CSDX/NOPB; Manufacturer: National Semiconductor; PackageTopMarking: NS*UZXYTT*L34910C; PowerWise: N; CompType: Switcher; High-Reliability: Y; DatasheetVersion: Aug-2007; PackageVersion: revA, May-2003; PackageReference: SDC10A; PackageDescription: LLP, Plastic, Dual, 4 x 4 x 0.8mm Body, 10 Lead, 0.8mm Pitch, No Pullback; RoHS: Y; PinCount: 10; ComponentLink1Description: Manufacturer URL; ComponentLink1URL: http://www.national.com/; ComponentLink2Description: LM34910C Datasheet; ComponentLink2URL: http://www.national.com/ds/LM/LM34910C.pdf; ComponentLink3Description: LM34910C Web Page; ComponentLink3URL: http://www.national.com/pf/LM/LM34910C.html; ComponentLink4Description: SDC10A Package Page; ComponentLink4URL: http://www.national.com/packaging/folders/sdc10a.html
footprint SDC10A (SON, 10-Leads, Body 4x4 mm, Pitch 0.8mm, NSC Recommended)
pins: 1 SW (power), 2 BST (in), 3 ISEN (in), 4 SGND (power), 5 RTN (power), 6 FB (in), 7 SS (in), 8 RON/SD (in), 9 VCC (power), 10 VIN (power), 11 DAP (power)

## LM34910SD
designator U?
High Voltage (40V, 1.25A) Step Down Switching Regulator, 10-pin LLP; PartNumber: LM34910SD; Manufacturer: National Semiconductor; PackageTopMarking: NS*UZXYTT*34910SD; PowerWise: N; CompType: Switcher; High-Reliability: Y; DatasheetVersion: Feb-2005; PackageVersion: revA, May-2003; PackageReference: SDC10A; PackageDescription: LLP, Plastic, Dual, 4 x 4 x 0.8mm Body, 10 Lead, 0.8mm Pitch, No Pullback; RoHS: N; PinCount: 10; ComponentLink1Description: Manufacturer URL; ComponentLink1URL: http://www.national.com/; ComponentLink2Description: LM34910 Datasheet; ComponentLink2URL: http://www.national.com/ds/LM/LM34910.pdf; ComponentLink3Description: LM34910 Web Page; ComponentLink3URL: http://www.national.com/pf/LM/LM34910.html; ComponentLink4Description: SDC10A Package Page; ComponentLink4URL: http://www.national.com/packaging/folders/sdc10a.html
footprint SDC10A (SON, 10-Leads, Body 4x4 mm, Pitch 0.8mm, NSC Recommended)
pins: 1 SW (power), 2 BST (in), 3 ISEN (in), 4 SGND (power), 5 RTN (power), 6 FB (in), 7 SS (in), 8 RON/SD (in), 9 VCC (power), 10 VIN (power), 11 DAP (power)

## LM34910SD/NOPB
designator U?
High Voltage (40V, 1.25A) Step Down Switching Regulator, 10-pin LLP, Pb-Free; PartNumber: LM34910SD/NOPB; Manufacturer: National Semiconductor; PackageTopMarking: NS*UZXYTT*34910SD; PowerWise: N; CompType: Switcher; High-Reliability: Y; DatasheetVersion: Feb-2005; PackageVersion: revA, May-2003; PackageReference: SDC10A; PackageDescription: LLP, Plastic, Dual, 4 x 4 x 0.8mm Body, 10 Lead, 0.8mm Pitch, No Pullback; RoHS: Y; PinCount: 10; ComponentLink1Description: Manufacturer URL; ComponentLink1URL: http://www.national.com/; ComponentLink2Description: LM34910 Datasheet; ComponentLink2URL: http://www.national.com/ds/LM/LM34910.pdf; ComponentLink3Description: LM34910 Web Page; ComponentLink3URL: http://www.national.com/pf/LM/LM34910.html; ComponentLink4Description: SDC10A Package Page; ComponentLink4URL: http://www.national.com/packaging/folders/sdc10a.html
footprint SDC10A (SON, 10-Leads, Body 4x4 mm, Pitch 0.8mm, NSC Recommended)
pins: 1 SW (power), 2 BST (in), 3 ISEN (in), 4 SGND (power), 5 RTN (power), 6 FB (in), 7 SS (in), 8 RON/SD (in), 9 VCC (power), 10 VIN (power), 11 DAP (power)

## LM34910SDX
designator U?
High Voltage (40V, 1.25A) Step Down Switching Regulator, 10-pin LLP; PartNumber: LM34910SDX; Manufacturer: National Semiconductor; PackageTopMarking: NS*UZXYTT*34910SD; PowerWise: N; CompType: Switcher; High-Reliability: Y; DatasheetVersion: Feb-2005; PackageVersion: revA, May-2003; PackageReference: SDC10A; PackageDescription: LLP, Plastic, Dual, 4 x 4 x 0.8mm Body, 10 Lead, 0.8mm Pitch, No Pullback; RoHS: N; PinCount: 10; ComponentLink1Description: Manufacturer URL; ComponentLink1URL: http://www.national.com/; ComponentLink2Description: LM34910 Datasheet; ComponentLink2URL: http://www.national.com/ds/LM/LM34910.pdf; ComponentLink3Description: LM34910 Web Page; ComponentLink3URL: http://www.national.com/pf/LM/LM34910.html; ComponentLink4Description: SDC10A Package Page; ComponentLink4URL: http://www.national.com/packaging/folders/sdc10a.html
footprint SDC10A (SON, 10-Leads, Body 4x4 mm, Pitch 0.8mm, NSC Recommended)
pins: 1 SW (power), 2 BST (in), 3 ISEN (in), 4 SGND (power), 5 RTN (power), 6 FB (in), 7 SS (in), 8 RON/SD (in), 9 VCC (power), 10 VIN (power), 11 DAP (power)

## LM34914SD
designator U?
Ultra Small 1.25A Step-Down Switching Regulator with Intelligent Current Limit, 10-pin LLP; PartNumber: LM34914SD; Manufacturer: National Semiconductor; PackageTopMarking: ZXYTT*34914; PowerWise: N; CompType: Switcher; High-Reliability: Y; DatasheetVersion: Dec-2007; PackageVersion: revA, Oct-2003; PackageReference: SDA10A; PackageDescription: LLP, Plastic, Dual, 3 x 3 x 0.8mm Body, 10 Lead, 0.5mm Pitch, No Pullback; RoHS: Y; PinCount: 10; ComponentLink1Description: Manufacturer URL; ComponentLink1URL: http://www.national.com/; ComponentLink2Description: LM34914 Datasheet; ComponentLink2URL: http://www.national.com/ds/LM/LM34914.pdf; ComponentLink3Description: LM34914 Web Page; ComponentLink3URL: http://www.national.com/pf/LM/LM34914.html; ComponentLink4Description: SDA10A Package Page; ComponentLink4URL: http://www.national.com/packaging/folders/sda10a.html
footprint SDA10A (SON, 10-Leads, Body 3x3 mm, Pitch 0.5mm, NSC Recommended)
pins: 1 SW (power), 2 BST (in), 3 ISEN (in), 4 SGND (power), 5 RTN (power), 6 FB (in), 7 SS (in), 8 RON/SD (in), 9 VCC (power), 10 VIN (power), 11 DAP (power)

## LM34914SD/NOPB
designator U?
Ultra Small 1.25A Step-Down Switching Regulator with Intelligent Current Limit, 10-pin LLP, Pb-Free; PartNumber: LM34914SD/NOPB; Manufacturer: National Semiconductor; PackageTopMarking: ZXYTT*34914; PowerWise: N; CompType: Switcher; High-Reliability: Y; DatasheetVersion: Dec-2007; PackageVersion: revA, Oct-2003; PackageReference: SDA10A; PackageDescription: LLP, Plastic, Dual, 3 x 3 x 0.8mm Body, 10 Lead, 0.5mm Pitch, No Pullback; RoHS: Y; PinCount: 10; ComponentLink1Description: Manufacturer URL; ComponentLink1URL: http://www.national.com/; ComponentLink2Description: LM34914 Datasheet; ComponentLink2URL: http://www.national.com/ds/LM/LM34914.pdf; ComponentLink3Description: LM34914 Web Page; ComponentLink3URL: http://www.national.com/pf/LM/LM34914.html; ComponentLink4Description: SDA10A Package Page; ComponentLink4URL: http://www.national.com/packaging/folders/sda10a.html
footprint SDA10A (SON, 10-Leads, Body 3x3 mm, Pitch 0.5mm, NSC Recommended)
pins: 1 SW (power), 2 BST (in), 3 ISEN (in), 4 SGND (power), 5 RTN (power), 6 FB (in), 7 SS (in), 8 RON/SD (in), 9 VCC (power), 10 VIN (power), 11 DAP (power)

## LM34914SDX/NOPB
designator U?
Ultra Small 1.25A Step-Down Switching Regulator with Intelligent Current Limit, 10-pin LLP, Pb-Free; PartNumber: LM34914SDX/NOPB; Manufacturer: National Semiconductor; PackageTopMarking: ZXYTT*34914; PowerWise: N; CompType: Switcher; High-Reliability: Y; DatasheetVersion: Dec-2007; PackageVersion: revA, Oct-2003; PackageReference: SDA10A; PackageDescription: LLP, Plastic, Dual, 3 x 3 x 0.8mm Body, 10 Lead, 0.5mm Pitch, No Pullback; RoHS: Y; PinCount: 10; ComponentLink1Description: Manufacturer URL; ComponentLink1URL: http://www.national.com/; ComponentLink2Description: LM34914 Datasheet; ComponentLink2URL: http://www.national.com/ds/LM/LM34914.pdf; ComponentLink3Description: LM34914 Web Page; ComponentLink3URL: http://www.national.com/pf/LM/LM34914.html; ComponentLink4Description: SDA10A Package Page; ComponentLink4URL: http://www.national.com/packaging/folders/sda10a.html
footprint SDA10A (SON, 10-Leads, Body 3x3 mm, Pitch 0.5mm, NSC Recommended)
pins: 1 SW (power), 2 BST (in), 3 ISEN (in), 4 SGND (power), 5 RTN (power), 6 FB (in), 7 SS (in), 8 RON/SD (in), 9 VCC (power), 10 VIN (power), 11 DAP (power)

## LM34917ATL/NOPB
designator U?
Ultra Small 33V, 1.25A Constant On-Time Buck Switching Regulator with Intelligent Current Limit, 12-pin Micro SMD, Pb-Free; PartNumber: LM34917ATL/NOPB; Manufacturer: National Semiconductor; PackageTopMarking: XYTT*I SRHA; PowerWise: Y; CompType: Switcher; DatasheetVersion: May-2008; PackageVersion: revC, Jan-2004; PackageReference: TLA12UNA; PackageDescription: Thin Micro SMD, 12 Bump (Large), Area Array, 0.5mm Pitch; RoHS: Y; PinCount: 12; High-Reliability: Y; Code_JEDEC: MO-211-DE; ComponentLink1Description: Manufacturer URL; ComponentLink1URL: http://www.national.com/; ComponentLink2Description: LM34917A Datasheet; ComponentLink2URL: http://www.national.com/ds/LM/LM34917A.pdf; ComponentLink3Description: LM34917A Web Page; ComponentLink3URL: http://www.national.com/pf/LM/LM34917A.html; ComponentLink4Description: TLA12UNA Package Page; ComponentLink4URL: http://www.national.com/packaging/folders/tla12una.html
footprint TLA12UNA (Micro SMD, 12-Leads, Body 2.3x1.97mm, Pitch 0.5mm, NSC Recommended)
pins: A1 SGND (power), A2 RTN (power), A3 FB (in), B1 ISEN (in), B2 RON/SD (in), B3 SS (in), C1 VIN (power), C2 VIN (power), C3 VCC (power), D1 SW (power), D2 SW (power), D3 BST (in)

## LM34917ATLX/NOPB
designator U?
Ultra Small 33V, 1.25A Constant On-Time Buck Switching Regulator with Intelligent Current Limit, 12-pin Micro SMD, Pb-Free; PartNumber: LM34917ATLX/NOPB; Manufacturer: National Semiconductor; PackageTopMarking: XYTT*I SRHA; PowerWise: Y; CompType: Switcher; DatasheetVersion: May-2008; PackageVersion: revC, Jan-2004; PackageReference: TLA12UNA; PackageDescription: Thin Micro SMD, 12 Bump (Large), Area Array, 0.5mm Pitch; RoHS: Y; PinCount: 12; High-Reliability: Y; Code_JEDEC: MO-211-DE; ComponentLink1Description: Manufacturer URL; ComponentLink1URL: http://www.national.com/; ComponentLink2Description: LM34917A Datasheet; ComponentLink2URL: http://www.national.com/ds/LM/LM34917A.pdf; ComponentLink3Description: LM34917A Web Page; ComponentLink3URL: http://www.national.com/pf/LM/LM34917A.html; ComponentLink4Description: TLA12UNA Package Page; ComponentLink4URL: http://www.national.com/packaging/folders/tla12una.html
footprint TLA12UNA (Micro SMD, 12-Leads, Body 2.3x1.97mm, Pitch 0.5mm, NSC Recommended)
pins: A1 SGND (power), A2 RTN (power), A3 FB (in), B1 ISEN (in), B2 RON/SD (in), B3 SS (in), C1 VIN (power), C2 VIN (power), C3 VCC (power), D1 SW (power), D2 SW (power), D3 BST (in)

## LM34919BQTL/NOPB
designator U?
Ultra Small 40V, 600 mA Constant On-Time Buck Switching Regulator, 10 pin MICRO SMD; PartNumber: LM34919BQTL/NOPB; Manufacturer: National Semiconductor; PackageTopMarking: XYTT*I SZRB; PowerWise: Y; CompType: Switcher; DatasheetVersion: May-2010; PackageVersion: revD, Mar-2004; PackageReference: TLP10KAA; PackageDescription: Thin Micro SMD, 10 Bump (Large), Peripheral, 0.5mm Pitch; RoHS: Y; PinCount: 10; High-Reliability: Y; Code_JEDEC: MO-211-BD; ComponentLink1Description: Manufacturer URL; ComponentLink1URL: http://www.national.com/; ComponentLink2Description: LM34919B Datasheet; ComponentLink2URL: http://www.national.com/ds/LM/LM34919B.pdf; ComponentLink3Description: LM34919B Web Page; ComponentLink3URL: http://www.national.com/pf/LM/LM34919B.html; ComponentLink4Description: TLP10KAA Package Page; ComponentLink4URL: http://www.national.com/packaging/folders/tlp10kaa.html
footprint TLP10KAA (Micro SMD, 10-Leads, Body 2x1.74mm, Pitch 0.5mm, NSC Recommended)
pins: A1 RON/SD (in), A2 RTN (power), A3 FB (in), B1 SGND (power), B3 SS (in), C1 ISEN (in), C3 VCC (power), D1 VIN (power), D2 SW (power), D3 BST (in)

## LM34919BQTLX/NOPB
designator U?
Ultra Small 40V, 600 mA Constant On-Time Buck Switching Regulator, 10 pin MICRO SMD; PartNumber: LM34919BQTLX/NOPB; Manufacturer: National Semiconductor; PackageTopMarking: XYTT*I SZRB; PowerWise: Y; CompType: Switcher; DatasheetVersion: May-2010; PackageVersion: revD, Mar-2004; PackageReference: TLP10KAA; PackageDescription: Thin Micro SMD, 10 Bump (Large), Peripheral, 0.5mm Pitch; RoHS: Y; PinCount: 10; High-Reliability: Y; Code_JEDEC: MO-211-BD; ComponentLink1Description: Manufacturer URL; ComponentLink1URL: http://www.national.com/; ComponentLink2Description: LM34919B Datasheet; ComponentLink2URL: http://www.national.com/ds/LM/LM34919B.pdf; ComponentLink3Description: LM34919B Web Page; ComponentLink3URL: http://www.national.com/pf/LM/LM34919B.html; ComponentLink4Description: TLP10KAA Package Page; ComponentLink4URL: http://www.national.com/packaging/folders/tlp10kaa.html
footprint TLP10KAA (Micro SMD, 10-Leads, Body 2x1.74mm, Pitch 0.5mm, NSC Recommended)
pins: A1 RON/SD (in), A2 RTN (power), A3 FB (in), B1 SGND (power), B3 SS (in), C1 ISEN (in), C3 VCC (power), D1 VIN (power), D2 SW (power), D3 BST (in)

## LM34919BTL/NOPB
designator U?
Ultra Small 40V, 600 mA Constant On-Time Buck Switching Regulator, 10 pin MICRO SMD; PartNumber: LM34919BTL/NOPB; Manufacturer: National Semiconductor; PackageTopMarking: XYTT*I SZCB; PowerWise: Y; CompType: Switcher; DatasheetVersion: May-2010; PackageVersion: revD, Mar-2004; PackageReference: TLP10KAA; PackageDescription: Thin Micro SMD, 10 Bump (Large), Peripheral, 0.5mm Pitch; RoHS: Y; PinCount: 10; High-Reliability: Y; Code_JEDEC: MO-211-BD; ComponentLink1Description: Manufacturer URL; ComponentLink1URL: http://www.national.com/; ComponentLink2Description: LM34919B Datasheet; ComponentLink2URL: http://www.national.com/ds/LM/LM34919B.pdf; ComponentLink3Description: LM34919B Web Page; ComponentLink3URL: http://www.national.com/pf/LM/LM34919B.html; ComponentLink4Description: TLP10KAA Package Page; ComponentLink4URL: http://www.national.com/packaging/folders/tlp10kaa.html
footprint TLP10KAA (Micro SMD, 10-Leads, Body 2x1.74mm, Pitch 0.5mm, NSC Recommended)
pins: A1 RON/SD (in), A2 RTN (power), A3 FB (in), B1 SGND (power), B3 SS (in), C1 ISEN (in), C3 VCC (power), D1 VIN (power), D2 SW (power), D3 BST (in)

## LM34919BTLX/NOPB
designator U?
Ultra Small 40V, 600 mA Constant On-Time Buck Switching Regulator, 10 pin MICRO SMD; PartNumber: LM34919BTLX/NOPB; Manufacturer: National Semiconductor; PackageTopMarking: XYTT*I SZCB; PowerWise: Y; CompType: Switcher; DatasheetVersion: May-2010; PackageVersion: revD, Mar-2004; PackageReference: TLP10KAA; PackageDescription: Thin Micro SMD, 10 Bump (Large), Peripheral, 0.5mm Pitch; RoHS: Y; PinCount: 10; High-Reliability: Y; Code_JEDEC: MO-211-BD; ComponentLink1Description: Manufacturer URL; ComponentLink1URL: http://www.national.com/; ComponentLink2Description: LM34919B Datasheet; ComponentLink2URL: http://www.national.com/ds/LM/LM34919B.pdf; ComponentLink3Description: LM34919B Web Page; ComponentLink3URL: http://www.national.com/pf/LM/LM34919B.html; ComponentLink4Description: TLP10KAA Package Page; ComponentLink4URL: http://www.national.com/packaging/folders/tlp10kaa.html
footprint TLP10KAA (Micro SMD, 10-Leads, Body 2x1.74mm, Pitch 0.5mm, NSC Recommended)
pins: A1 RON/SD (in), A2 RTN (power), A3 FB (in), B1 SGND (power), B3 SS (in), C1 ISEN (in), C3 VCC (power), D1 VIN (power), D2 SW (power), D3 BST (in)

## LM34919TL/NOPB
designator U?
Ultra Small 40V, 600 mA Constant On-Time Buck Switching Regulator, 10-pin Micro SMD, Pb-Free; PartNumber: LM34919TL/NOPB; Manufacturer: National Semiconductor; PackageTopMarking: XYTT*I SRYB; PowerWise: Y; CompType: Switcher; DatasheetVersion: Jun-2008; PackageVersion: revD, Mar-2004; PackageReference: TLP10A1A; PackageDescription: Thin Micro SMD, 10 Bump (Large), Periperal, 0.5mm Pitch; RoHS: Y; PinCount: 10; High-Reliability: Y; Code_JEDEC: MO-211-BD; ComponentLink1Description: Manufacturer URL; ComponentLink1URL: http://www.national.com/; ComponentLink2Description: LM34919 Datasheet; ComponentLink2URL: http://www.national.com/ds/LM/LM34919.pdf; ComponentLink3Description: LM34919 Web Page; ComponentLink3URL: http://www.national.com/pf/LM/LM34919.html; ComponentLink4Description: TLP10A1A Package Page; ComponentLink4URL: http://www.national.com/packaging/folders/tlp10a1a.html
footprint TLP10A1A (Micro SMD, 10-Leads, Body 1.97x1.51mm, Pitch 0.5mm, NSC Recommended)
pins: A1 RON/SD (in), A2 RTN (power), A3 FB (in), B1 SGND (power), B3 SS (in), C1 ISEN (in), C3 VCC (power), D1 VIN (power), D2 SW (power), D3 BST (in)

## LM34919TLX/NOPB
designator U?
Ultra Small 40V, 600 mA Constant On-Time Buck Switching Regulator, 10-pin Micro SMD, Pb-Free; PartNumber: LM34919TLX/NOPB; Manufacturer: National Semiconductor; PackageTopMarking: XYTT*I SRYB; PowerWise: Y; CompType: Switcher; DatasheetVersion: Jun-2008; PackageVersion: revD, Mar-2004; PackageReference: TLP10A1A; PackageDescription: Thin Micro SMD, 10 Bump (Large), Periperal, 0.5mm Pitch; RoHS: Y; PinCount: 10; High-Reliability: Y; Code_JEDEC: MO-211-BD; ComponentLink1Description: Manufacturer URL; ComponentLink1URL: http://www.national.com/; ComponentLink2Description: LM34919 Datasheet; ComponentLink2URL: http://www.national.com/ds/LM/LM34919.pdf; ComponentLink3Description: LM34919 Web Page; ComponentLink3URL: http://www.national.com/pf/LM/LM34919.html; ComponentLink4Description: TLP10A1A Package Page; ComponentLink4URL: http://www.national.com/packaging/folders/tlp10a1a.html
footprint TLP10A1A (Micro SMD, 10-Leads, Body 1.97x1.51mm, Pitch 0.5mm, NSC Recommended)
pins: A1 RON/SD (in), A2 RTN (power), A3 FB (in), B1 SGND (power), B3 SS (in), C1 ISEN (in), C3 VCC (power), D1 VIN (power), D2 SW (power), D3 BST (in)

## LM34923MM/NOPB
designator U?
80V, 600 mA Constant On-Time Buck Switching Regulator, 10-pin Mini SOIC, 1000 Reel; PartNumber: LM34923MM/NOPB; Manufacturer: National Semiconductor; PackageTopMarking: ZXTT*SB5B; PowerWise: N; CompType: Switcher; High-Reliability: Y; DatasheetVersion: Mar-2011; PackageVersion: revB, Jul-2003; PackageReference: MUB10A; PackageDescription: Mini-SO, Molded, .118 x .118 x .034in Body, 10 Lead, .0197in Pitch; RoHS: Y; PinCount: 10; Code_JEDEC: MO-187-BA; ComponentLink1Description: Manufacturer URL; ComponentLink1URL: http://www.national.com/; ComponentLink2Description: LM34923 Datasheet; ComponentLink2URL: http://www.national.com/ds/LM/LM34923.pdf; ComponentLink3Description: LM34923 Web Page; ComponentLink3URL: http://www.national.com/pf/LM/LM34923.html; ComponentLink4Description: MUB10A Package Page; ComponentLink4URL: http://www.national.com/packaging/folders/mub10a.html
footprint MUB10A_N (TSSOP, 10-Leads, Body 3x3mm, Pitch 0.5mm, IPC Medium Density)
footprint MUB10A_L (TSSOP, 10-Leads, Body 3x3mm, Pitch 0.5mm, IPC High Density)
footprint MUB10A_M (TSSOP, 10-Leads, Body 3x3mm, Pitch 0.5mm, IPC Low Density)
pins: 1 SW (power), 2 BST (in), 3 NC, 4 RTN (power), 5 UV (in), 6 UVO (oc), 7 FB (in), 8 RT/SD (in), 9 VCC (power), 10 VIN (power)

## LM34923MMX/NOPB
designator U?
80V, 600 mA Constant On-Time Buck Switching Regulator, 10-pin Mini SOIC, 3500 Reel; PartNumber: LM34923MMX/NOPB; Manufacturer: National Semiconductor; PackageTopMarking: ZXTT*SB5B; PowerWise: N; CompType: Switcher; High-Reliability: Y; DatasheetVersion: Mar-2011; PackageVersion: revB, Jul-2003; PackageReference: MUB10A; PackageDescription: Mini-SO, Molded, .118 x .118 x .034in Body, 10 Lead, .0197in Pitch; RoHS: Y; PinCount: 10; Code_JEDEC: MO-187-BA; ComponentLink1Description: Manufacturer URL; ComponentLink1URL: http://www.national.com/; ComponentLink2Description: LM34923 Datasheet; ComponentLink2URL: http://www.national.com/ds/LM/LM34923.pdf; ComponentLink3Description: LM34923 Web Page; ComponentLink3URL: http://www.national.com/pf/LM/LM34923.html; ComponentLink4Description: MUB10A Package Page; ComponentLink4URL: http://www.national.com/packaging/folders/mub10a.html
footprint MUB10A_N (TSSOP, 10-Leads, Body 3x3mm, Pitch 0.5mm, IPC Medium Density)
footprint MUB10A_L (TSSOP, 10-Leads, Body 3x3mm, Pitch 0.5mm, IPC High Density)
footprint MUB10A_M (TSSOP, 10-Leads, Body 3x3mm, Pitch 0.5mm, IPC Low Density)
pins: 1 SW (power), 2 BST (in), 3 NC, 4 RTN (power), 5 UV (in), 6 UVO (oc), 7 FB (in), 8 RT/SD (in), 9 VCC (power), 10 VIN (power)

## LM34930TL/NOPB
designator U?
Ultra Small 33V, 1A Constant On-Time Buck Switching Regulator with Intelligent Current Limit, 12-pin Micro SMD, Pb-Free; PartNumber: LM34930TL/NOPB; Manufacturer: National Semiconductor; PackageTopMarking: XYTT*I STCB; PowerWise: Y; CompType: Switcher; DatasheetVersion: Jun-2008; PackageVersion: revC, Jan-2004; PackageReference: TLA12LDA; PackageDescription: Thin Micro SMD, 12 Bump (Large), Area Array, 0.5mm Pitch; RoHS: Y; PinCount: 12; High-Reliability: Y; Code_JEDEC: MO-211-DE; ComponentLink1Description: Manufacturer URL; ComponentLink1URL: http://www.national.com/; ComponentLink2Description: LM34930 Datasheet; ComponentLink2URL: http://www.national.com/ds/LM/LM34930.pdf; ComponentLink3Description: LM34930 Web Page; ComponentLink3URL: http://www.national.com/pf/LM/LM34930.html; ComponentLink4Description: TLA12LDA Package Page; ComponentLink4URL: http://www.national.com/packaging/folders/tla12lda.html
footprint TLA12LDA (Micro SMD, 12-Leads, Body 2.07x1.77mm, Pitch 0.5mm, NSC Recommended)
pins: A1 GND (power), A2 nOV (oc), A3 FB (in), B1 ISEN (in), B2 RT (in), B3 SS (in), C1 VIN (power), C2 VIN (power), C3 VCC (power), D1 SW (power), D2 SW (power), D3 BST (in)

## LM34930TLX/NOPB
designator U?
Ultra Small 33V, 1A Constant On-Time Buck Switching Regulator with Intelligent Current Limit, 12-pin Micro SMD, Pb-Free; PartNumber: LM34930TLX/NOPB; Manufacturer: National Semiconductor; PackageTopMarking: XYTT*I STCB; PowerWise: Y; CompType: Switcher; DatasheetVersion: Jun-2008; PackageVersion: revC, Jan-2004; PackageReference: TLA12LDA; PackageDescription: Thin Micro SMD, 12 Bump (Large), Area Array, 0.5mm Pitch; RoHS: Y; PinCount: 12; High-Reliability: Y; Code_JEDEC: MO-211-DE; ComponentLink1Description: Manufacturer URL; ComponentLink1URL: http://www.national.com/; ComponentLink2Description: LM34930 Datasheet; ComponentLink2URL: http://www.national.com/ds/LM/LM34930.pdf; ComponentLink3Description: LM34930 Web Page; ComponentLink3URL: http://www.national.com/pf/LM/LM34930.html; ComponentLink4Description: TLA12LDA Package Page; ComponentLink4URL: http://www.national.com/packaging/folders/tla12lda.html
footprint TLA12LDA (Micro SMD, 12-Leads, Body 2.07x1.77mm, Pitch 0.5mm, NSC Recommended)
pins: A1 GND (power), A2 nOV (oc), A3 FB (in), B1 ISEN (in), B2 RT (in), B3 SS (in), C1 VIN (power), C2 VIN (power), C3 VCC (power), D1 SW (power), D2 SW (power), D3 BST (in)